# Altium schematic symbol library CrystalOscillator.SchLib: 14 symbols
Pins are listed as number, name and electrical type; pins without a type are passive.

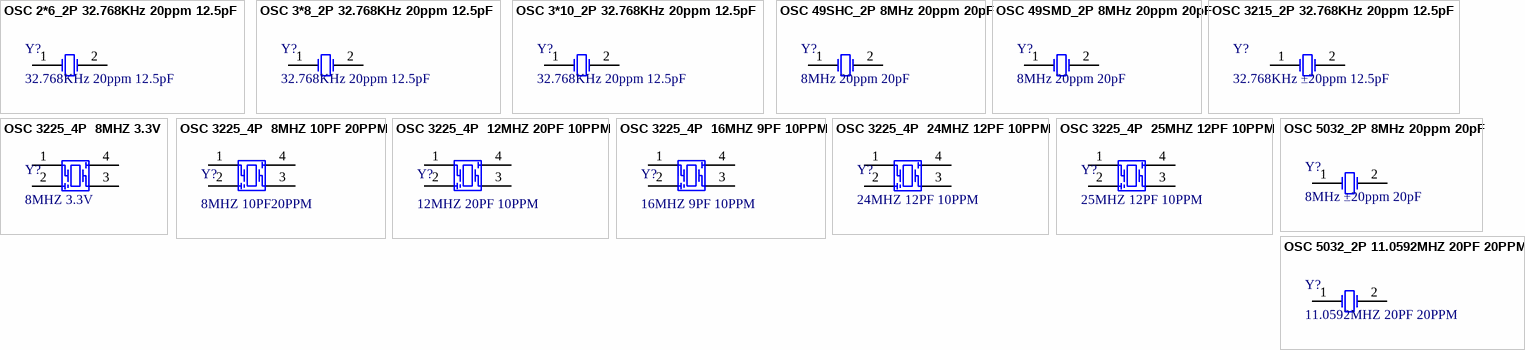
[diagram p0: symbols OSC 2*6_2P 32.768KHz 20ppm 12.5pF to OSC 5032_2P 11.0592MHZ 20PF 20PPM]

## OSC 2*6_2P 32.768KHz 20ppm 12.5pF
designator Y?, comment 32.768KHz 20ppm 12.5pF
圆柱体晶振
footprint OSC 2x6-LI
footprint OSC 2x6-WI-A
footprint OSC 2x6-WI-B
footprint OSC 2x6-WS
pins: 1 OSC1, 2 OSC2

## OSC 3*8_2P 32.768KHz 20ppm 12.5pF
designator Y?, comment 32.768KHz 20ppm 12.5pF
圆柱体晶振
footprint OSC 3x8-LI
footprint OSC 3X8-WI-A
footprint OSC 3x8-WI-B
footprint OSC 3x8-WS
pins: 1 OSC1, 2 OSC2

## OSC 3*10_2P 32.768KHz 20ppm 12.5pF
designator Y?, comment 32.768KHz 20ppm 12.5pF
圆柱体晶振
footprint OSC 3X10-WI-A
footprint OSC 3x10-LI
footprint OSC 3x10-WI-B
footprint OSC 3x10-WS
pins: 1 OSC1, 2 OSC2

## OSC 49SHC_2P 8MHz 20ppm 20pF
designator Y?, comment 8MHz 20ppm 20pF
直插晶振
footprint OSC HC-49S
pins: 1 OSC1, 2 OSC2

## OSC 49SMD_2P 8MHz 20ppm 20pF
designator Y?, comment 8MHz 20ppm 20pF
贴片晶振
footprint OSC HC-49SMD
pins: 1 OSC1, 2 OSC2

## OSC 3215_2P 32.768KHz 20ppm 12.5pF
designator Y?, comment 32.768KHz ±20ppm 12.5pF
贴片晶振; ComponentLink1Description: 供应商链接; ComponentLink1URL: http://www.szlcsc.com/product/details_33310.html; Package: SMD-3215_2P; Supplier: LC; SuppliersPartNumber: C32346
footprint OSC 3215-2P
pins: 1 OSC1, 2 OSC2

## OSC 3225_4P  8MHZ 3.3V
designator Y?, comment 8MHZ 3.3V
贴片晶振; ComponentLink1Description: 供应商链接; ComponentLink1URL: http://www.szlcsc.com/product/details_9522.html; Package: SMD-3225_4P; Supplier: LC; SuppliersPartNumber: C9002
footprint OSC 3225-4P
pins: 1 OSC1, 2 GND, 3 OSC2, 4 VCC

## OSC 3225_4P  8MHZ 10PF 20PPM
designator Y?, comment 8MHZ 10PF20PPM
贴片晶振; ComponentLink1Description: 供应商链接; ComponentLink1URL: http://www.szlcsc.com/product/details_9522.html; Package: SMD-3225_4P; Supplier: LC; SuppliersPartNumber: C9002
footprint OSC 3225-4P
pins: 1 OSC1, 2 GND, 3 OSC2, 4 VCC

## OSC 3225_4P  12MHZ 20PF 10PPM
designator Y?, comment 12MHZ 20PF 10PPM
贴片晶振; ComponentLink1Description: 供应商链接; ComponentLink1URL: http://www.szlcsc.com/product/details_9522.html; Package: SMD-3225_4P; Supplier: LC; SuppliersPartNumber: C9002
footprint OSC 3225-4P
pins: 1 OSC1, 2 GND, 3 OSC2, 4 VCC

## OSC 3225_4P  16MHZ 9PF 10PPM
designator Y?, comment 16MHZ 9PF 10PPM
贴片晶振; ComponentLink1Description: 供应商链接; ComponentLink1URL: http://www.szlcsc.com/product/details_14393.html; Package: SMD-3225_4P; Supplier: LC; SuppliersPartNumber: C13738
footprint OSC 3225-4P
pins: 1 OSC1, 2 GND, 3 OSC2, 4 VCC

## OSC 3225_4P  24MHZ 12PF 10PPM
designator Y?, comment 24MHZ 12PF 10PPM
贴片晶振; Package: SMD-3225_4P; Supplier: LC; SuppliersPartNumber: C9006
footprint OSC 3225-4P
pins: 1 OSC1, 2 GND, 3 OSC2, 4 VCC

## OSC 3225_4P  25MHZ 12PF 10PPM
designator Y?, comment 25MHZ 12PF 10PPM
贴片晶振; ComponentLink1Description: 供应商链接; ComponentLink1URL: http://www.szlcsc.com/product/details_9526.html; Package: SMD-3225_4P; Supplier: LC; SuppliersPartNumber: C9006
footprint OSC 3225-4P
pins: 1 OSC1, 2 GND, 3 OSC2, 4 VCC

## OSC 5032_2P 8MHz 20ppm 20pF
designator Y?, comment 8MHz ±20ppm 20pF
贴片晶振; ComponentLink1Description: 供应商链接; ComponentLink1URL: http://www.szlcsc.com/product/details_19261.html; Package: SMD-5032_2P; Supplier: LC; SuppliersPartNumber: C18560
footprint OSC 5032-2P
pins: 1 OSC1, 2 OSC2

## OSC 5032_2P 11.0592MHZ 20PF 20PPM
designator Y?, comment 11.0592MHZ 20PF 20PPM
贴片晶振; ComponentLink1Description: 供应商链接; ComponentLink1URL: http://www.szlcsc.com/product/details_53039.html; Package: SMD-5032_2P; Supplier: LC; SuppliersPartNumber: C52026
footprint OSC 5032-2P
pins: 1 OSC1, 2 OSC2